# Altium footprint library SparkFun-Clocks.PCBLIB: 33 footprints (part 1 of 3)
Each footprint in its own frame and in the unit in brackets; x right, y up, seen from the top. Pads: shape width x height; smd on the part's side, far side on the other; paste and mask are expansions set on the pad; w line width, h text height; cw(c..) or ccw(c..) is an arc to the next point about the centre after c.
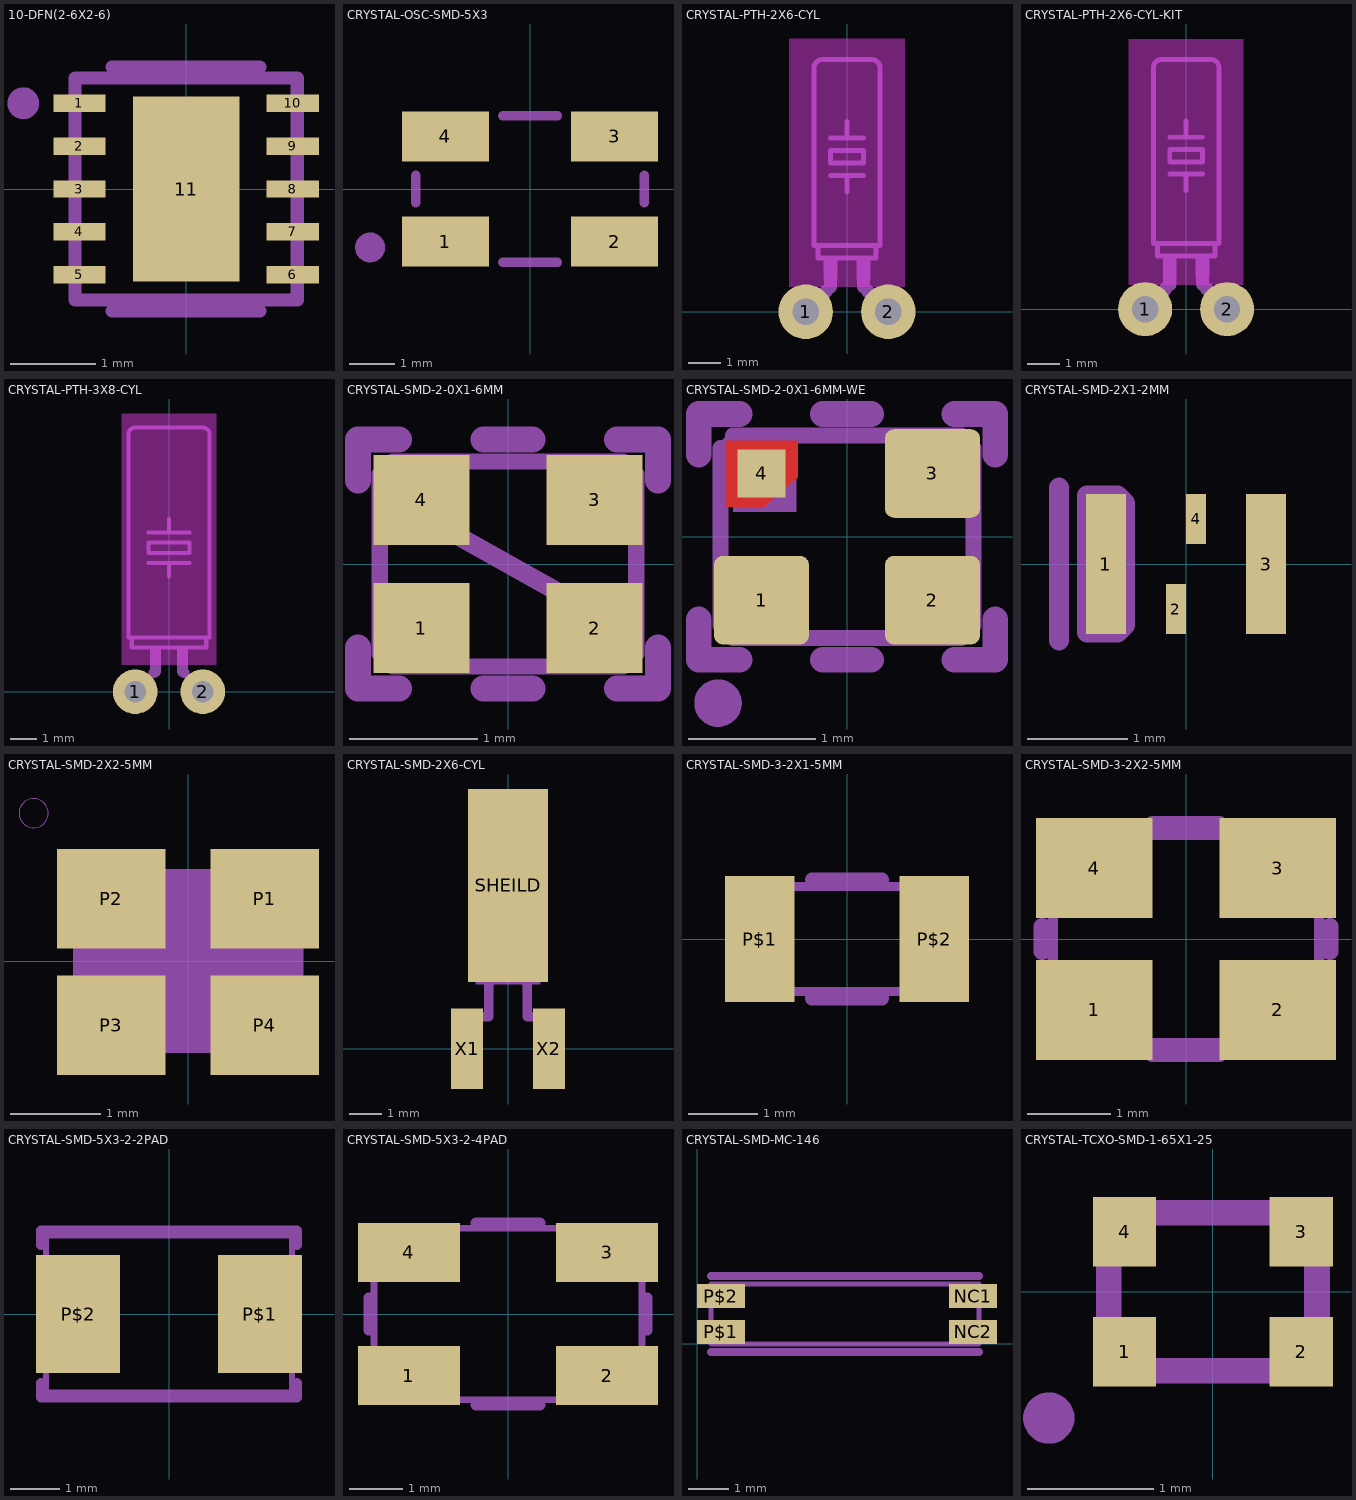
[diagram p0: the footprints below, top view; thin cyan lines are the x and y axes]

## 10-DFN(2-6X2-6) [mil]
pads (11):
  rect 24x8 smd: 1(-49,39.37) 2(-49,19.69) 3(-49,0) 4(-49,-19.69) 5(-49,-39.37) 6(49,-39.37) 7(49,-19.69) 8(49,0) 9(49,19.69) 10(49,39.37)
  rect 49x85 smd paste+0: 11(0,0)
tDocu:
  lines w6: -51,-51 51,-51 51,51 -51,51 -51,-51
tPlace:
  circle w10.63: c-74.8,39.37 r1.97
  lines w6: -34,-56 34,-56 ; -34,56 34,56

## CRYSTAL-OSC-SMD-5X3 [mil]
pads (4):
  rect 74.8x43.31 smd: 1(-72.83,-45.28) 2(72.83,-45.28) 3(72.83,45.28) 4(-72.83,45.28)
tPlace:
  circle w5: c-137.74,-50.37 r10.44
  circle w5: c-137.74,-50.37 r5.73
  circle w5: c-137.74,-50.37 r1.12
  lines w8: -98.43,-11.81 -98.43,11.81 ; -23.62,-62.99 23.62,-62.99 ; -23.62,62.99 23.62,62.99 ; 98.43,-11.81 98.43,11.81

## CRYSTAL-PTH-2X6-CYL [mil]
pads (2):
  round 66 hole 32: 1(-50,0) 2(50,0)
Top keep-out:
  region: -70,30 -70,330 70,330 70,30
tDocu:
  lines w16: -50,0 -25,25 ; 25,25 50,0
tPlace:
  region: 12,40 12,63 28,63 28,40
  region: -28,40 -28,63 -12,63 -12,40
  lines w6: -20,165 0,165 ; -20,210 0,210 ; 0,145 0,165 ; 0,230 0,210 ; 20,165 0,165 ; 20,210 0,210 ; -35,80 -35,65 35,65 35,80 ; -35,80 -40,80 -40,295 cw(c-30,295) -30,305 30,305 cw(c30,295) 40,295 40,80 35,80 ; -35,80 35,80 ; -20,180 -20,195 20,195 20,180 -20,180
  lines w16: -20,30 -20,50 ; 20,30 20,45

## CRYSTAL-PTH-2X6-CYL-KIT [mil]
pads (2):
  round 66 hole 32: 1(-50,0) 2(50,0)
Top keep-out:
  region: -70,30 -70,330 70,330 70,30
Top Solder:
  circle w0: c-50,0 r20
  circle w0: c50,0 r20
Bottom Solder:
  circle w0: c-50,0 r36.4
  circle w0: c50,0 r36.06
tDocu:
  lines w16: -50,0 -25,25 ; 25,25 50,0
tPlace:
  region: 12,40 12,63 28,63 28,40
  region: -28,40 -28,63 -12,63 -12,40
  lines w6: -20,165 0,165 ; -20,210 0,210 ; 0,145 0,165 ; 0,230 0,210 ; 20,165 0,165 ; 20,210 0,210 ; -35,80 -35,65 35,65 35,80 ; -35,80 -40,80 -40,295 cw(c-30,295) -30,305 30,305 cw(c30,295) 40,295 40,80 35,80 ; -35,80 35,80 ; -20,180 -20,195 20,195 20,180 -20,180
  lines w16: -20,30 -20,50 ; 20,30 20,45

## CRYSTAL-PTH-3X8-CYL [mil]
pads (2):
  round 66 hole 32: 1(-50,0) 2(50,0)
Top keep-out:
  region: -70,40 -70,410 70,410 70,40
tDocu:
  lines w6: -50,0 -25,25 ; 25,25 50,0
tPlace:
  region: 12,40 12,63 28,63 28,40
  region: -28,40 -28,63 -12,63 -12,40
  lines w6: -30,190 0,190 ; -30,235 0,235 ; 0,170 0,190 ; 0,255 0,235 ; 30,190 0,190 ; 30,235 0,235 ; -55,80 -55,65 55,65 55,80 ; -55,80 -60,80 -60,380 cw(c-50,380) -50,390 50,390 cw(c50,380) 60,380 60,80 55,80 ; -55,80 55,80 ; -30,205 -30,220 30,220 30,205 -30,205
  lines w16: -22,28 -20,30 -20,40 ; 20,45 20,30 22,28

## CRYSTAL-SMD-2-0X1-6MM [mil]
pads (4):
  rect 29.53x27.56 smd: 1(-26.57,-19.69) 2(26.57,-19.69) 3(26.57,19.69) 4(-26.57,19.69)
tDocu:
  region: -15.75,7.87 -15.75,27.56 -25.59,27.56 -25.59,31.5 -35.43,31.5 -35.51,30.73 -36.09,29.31 -37.18,28.22 -38.6,27.64 -39.37,27.56 -39.37,17.72 -35.43,17.72 -35.43,7.87
  region: 15.75,-7.87 15.75,-27.56 25.59,-27.56 25.59,-31.5 35.43,-31.5 35.51,-30.73 36.09,-29.31 37.18,-28.22 38.6,-27.64 39.37,-27.56 39.37,-17.72 35.43,-17.72 35.43,-7.87
  region: -15.75,-7.87 -15.75,-27.56 -25.59,-27.56 -25.59,-31.5 -35.43,-31.5 -35.51,-30.73 -36.09,-29.31 -37.18,-28.22 -38.6,-27.64 -39.37,-27.56 -39.37,-17.72 -35.43,-17.72 -35.43,-7.87
  region: 15.75,7.87 15.75,27.56 25.59,27.56 25.59,31.5 35.43,31.5 35.51,30.73 36.09,29.31 37.18,28.22 38.6,27.64 39.37,27.56 39.37,17.72 35.43,17.72 35.43,7.87
  region: 19.92,-7.87 -15.75,12.05 -19.92,7.87 15.75,-12.05
  lines w5: -39.37,-27.56 -39.37,27.56 ccw(c-39.37,31.5) -35.43,31.5 35.43,31.5 ccw(c39.37,31.5) 39.37,27.56 39.37,-27.56 ccw(c39.37,-31.5) 35.43,-31.5 -35.43,-31.5 ccw(c-39.37,-31.5) -39.37,-27.56
tPlace:
  lines w8: -46.06,-25.59 -46.06,-38.19 -33.46,-38.19 ; -46.06,25.59 -46.06,38.19 -33.46,38.19 ; -7.48,-38.19 7.48,-38.19 ; -7.48,38.19 7.48,38.19 ; 33.46,-38.19 46.06,-38.19 46.06,-25.59 ; 33.46,38.19 46.06,38.19 46.06,25.59

## CRYSTAL-SMD-2-0X1-6MM-WE [mil]
pads (4):
  rrect20% 29.53x27.56 smd: 1(-26.57,-19.69) 2(26.57,-19.69) 3(26.57,19.69)
  rect 15x15 smd mask+0: 4(-26.57,19.69)
Top:
  region: -15.3,29.9 -37.8,29.9 -37.8,9.4 -25.7,9.4 -15.3,18.5
Top Solder:
  region: -12.2,33.3 -41.6,33.2 -41.4,5.6 -25.3,5.6 -11.7,18.3
tDocu:
  region: -15.75,7.87 -15.75,27.56 -25.59,27.56 -25.59,31.5 -35.43,31.5 -35.51,30.73 -36.09,29.31 -37.18,28.22 -38.6,27.64 -39.37,27.56 -39.37,17.72 -35.43,17.72 -35.43,7.87
  region: 15.75,-7.87 15.75,-27.56 25.59,-27.56 25.59,-31.5 35.43,-31.5 35.51,-30.73 36.09,-29.31 37.18,-28.22 38.6,-27.64 39.37,-27.56 39.37,-17.72 35.43,-17.72 35.43,-7.87
  region: -15.75,-7.87 -15.75,-27.56 -25.59,-27.56 -25.59,-31.5 -35.43,-31.5 -35.51,-30.73 -36.09,-29.31 -37.18,-28.22 -38.6,-27.64 -39.37,-27.56 -39.37,-17.72 -35.43,-17.72 -35.43,-7.87
  region: 15.75,7.87 15.75,27.56 25.59,27.56 25.59,31.5 35.43,31.5 35.51,30.73 36.09,29.31 37.18,28.22 38.6,27.64 39.37,27.56 39.37,17.72 35.43,17.72 35.43,7.87
  lines w5: -39.37,-27.56 -39.37,27.56 ccw(c-39.37,31.5) -35.43,31.5 35.43,31.5 ccw(c39.37,31.5) 39.37,27.56 39.37,-27.56 ccw(c39.37,-31.5) 35.43,-31.5 -35.43,-31.5 ccw(c-39.37,-31.5) -39.37,-27.56
tPlace:
  circle w8: c-40.1,-51.7 r3.39
  lines w8: -46.06,-25.59 -46.06,-38.19 -33.46,-38.19 ; -46.06,25.59 -46.06,38.19 -33.46,38.19 ; -7.48,-38.19 7.48,-38.19 ; -7.48,38.19 7.48,38.19 ; 33.46,-38.19 46.06,-38.19 46.06,-25.59 ; 33.46,38.19 46.06,38.19 46.06,25.59

## CRYSTAL-SMD-2X1-2MM [mil]
pads (4):
  rect 15.75x55.12 smd: 1(-31.5,0) 3(31.5,0)
  rect 7.87x19.69 smd: 2(-3.94,-17.72) 4(3.94,17.72)
tDocu:
  lines w8: -39,-27 -27,-27 -24,-24 -24,24 -27,27 -39,27 -39,-27
tPlace:
  lines w8: -50,-30 -50,30

## CRYSTAL-SMD-2X2-5MM [mil]
pads (4):
  rect 47.24x43.31 smd: P1(33.31,27.17) P2(-33.62,27.17) P3(-33.62,-27.95) P4(33.31,-27.95)
tDocu:
  region: -50,-40 50,-40 50,40 -30,40 -50,20
tPlace:
  circle w0: c-67.32,64.37 r6.36

## CRYSTAL-SMD-2X6-CYL [mm]
pads (3):
  rect 2.5x6 smd: SHEILD(0,5.08)
  rect 1x2.5 smd: X1(-1.27,0) X2(1.27,0)
tDocu:
  region: -1,8 -1,2 1,2 1,8
  lines w0.127: -0.6,2 -0.5,2 ; 0.5,2 0.6,2
  lines w0.3: -1.27,-1 -1.27,1 -0.6,1 -0.6,2 ; 0.6,2 0.6,1 1.27,1 1.27,-1

## CRYSTAL-SMD-3-2X1-5MM [mm]
pads (2):
  rect 1x1.8 smd: P$1(-1.25,0) P$2(1.25,0)
tDocu:
  lines w0.127: -1.6,-0.75 1.6,-0.75 1.6,0.75 -1.6,0.75 -1.6,-0.75
tPlace:
  lines w0.203: -0.5,-0.85 0.5,-0.85 ; -0.5,0.85 0.5,0.85

## CRYSTAL-SMD-3-2X2-5MM [mil]
pads (4):
  rect 55.12x47.24 smd: 1(-43.31,-33.46) 2(43.31,-33.46) 3(43.31,33.46) 4(-43.31,33.46)
tDocu:
  region: -62.99,13.78 -62.99,45.28 -23.62,45.28 -23.62,13.78
  region: 62.99,-13.78 62.99,-45.28 23.62,-45.28 23.62,-13.78
  region: -62.99,-45.28 -62.99,-13.78 -23.62,-13.78 -23.62,-45.28
  region: 62.99,45.28 62.99,13.78 23.62,13.78 23.62,45.28
  lines w5: -62.99,-49.21 -62.99,49.21 62.99,49.21 62.99,-49.21 -62.99,-49.21
tPlace:
  lines w8: -67.99,-5.91 -67.99,5.91 ; -15.75,-54.21 15.75,-54.21 ; -15.75,54.21 15.75,54.21 ; 67.99,-5.91 67.99,5.91

## CRYSTAL-SMD-5X3-2-2PAD [mil]
pads (2):
  rect 66.93x94.49 smd: P$1(72.83,0) P$2(-72.83,0)
tDocu:
  region: -98.43,39.37 -47.24,39.37 -47.24,-39.37 -98.43,-39.37
  region: 98.43,-39.37 47.24,-39.37 47.24,39.37 98.43,39.37
  lines w5: -98.43,-62.99 98.43,-62.99 98.43,62.99 -98.43,62.99 -98.43,-62.99
tPlace:
  lines w8: -102.36,-55.12 -102.36,-66.93 102.36,-66.93 102.36,-55.12 ; -102.36,55.12 -102.36,66.93 102.36,66.93 102.36,55.12

## CRYSTAL-SMD-5X3-2-4PAD [mil]
pads (4):
  rect 74.8x43.31 smd: 1(-72.83,-45.28) 2(72.83,-45.28) 3(72.83,45.28) 4(-72.83,45.28)
tDocu:
  region: -98.43,62.99 -98.43,31.5 -51.18,31.5 -51.18,62.99
  region: 98.43,-62.99 98.43,-31.5 51.18,-31.5 51.18,-62.99
  region: 51.18,62.99 51.18,31.5 98.43,31.5 98.43,62.99
  region: -51.18,-62.99 -51.18,-31.5 -98.43,-31.5 -98.43,-62.99
  lines w5: -98.43,-62.99 -98.43,62.99 98.43,62.99 98.43,-62.99 -98.43,-62.99
tPlace:
  lines w8: -102.36,-11.81 -102.36,11.81 ; -23.62,-66.93 23.62,-66.93 ; -23.62,66.93 23.62,66.93 ; 102.36,-11.81 102.36,11.81

## CRYSTAL-SMD-MC-146 [mil]
pads (4):
  rect 47.24x23.62 smd: NC1(271.65,47.24) NC2(271.65,11.81) P$1(23.62,11.81) P$2(23.62,47.24)
tDocu:
  lines w5: 13.78,0 277.56,0 277.56,59.06 13.78,59.06 13.78,0
tPlace:
  lines w8: 13.78,-7.87 277.56,-7.87 ; 13.78,66.93 277.56,66.93

## CRYSTAL-TCXO-SMD-1-65X1-25 [mil]
pads (4):
  rect 19.69x21.65 smd: 1(-27.56,-18.7) 2(27.56,-18.7) 3(27.56,18.7) 4(-27.56,18.7)
tDocu:
  lines w8: -32.48,-24.61 -32.48,24.61 32.48,24.61 32.48,-24.61 -32.48,-24.61
tPlace:
  circle w8: c-51.18,-39.37 r4
  lines w8: -9.84,-24.61 9.84,-24.61 ; -9.84,24.61 9.84,24.61